# EAGLE library part 5P49V5923 (library 25cmsquare)
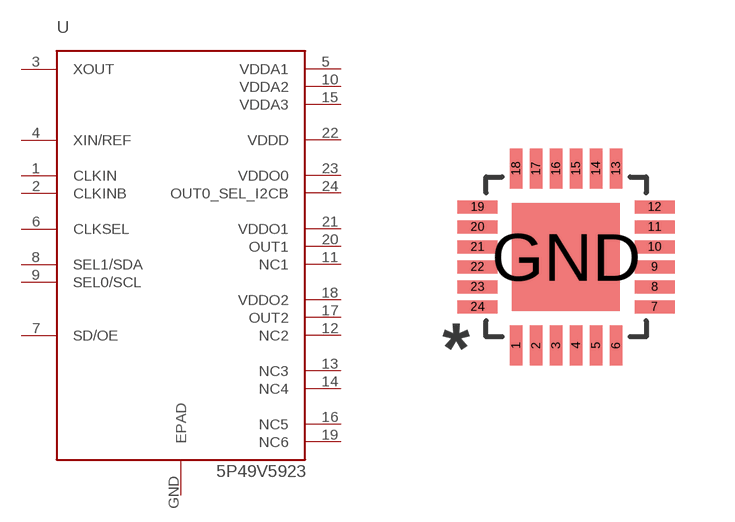
[diagram p11: symbol with the pads of VFQFPN_24_4X4; footprint VFQFPN_24_4X4]

Designator prefix U

## 5P49V5923  [VFQFPN_24_4X4]
1  CLKIN
2  CLKINB
3  XOUT
4  XIN/REF
5  VDDA1
6  CLKSEL
7  SD/OE
8  SEL1/SDA
9  SEL0/SCL
10  VDDA2
11  NC1
12  NC2
13  NC3
14  NC4
15  VDDA3
16  NC5
17  OUT2
18  VDDO2
19  NC6
20  OUT1
21  VDDO1
22  VDDD
23  VDDO0
24  OUT0_SEL_I2CB
GND  EPAD

## Footprint VFQFPN_24_4X4 (pad centres in mm)
smd 0.32 x 1: 1 -1.25,-2.215; 2 -0.75,-2.215; 3 -0.25,-2.215; 4 0.25,-2.215; 5 0.75,-2.215; 6 1.25,-2.215; 13 1.25,2.215; 14 0.75,2.215; 15 0.25,2.215; 16 -0.25,2.215; 17 -0.75,2.215; 18 -1.25,2.215
smd 1 x 0.32: 7 2.215,-1.25; 8 2.215,-0.75; 9 2.215,-0.25; 10 2.215,0.25; 11 2.215,0.75; 12 2.215,1.25; 19 -2.215,1.25; 20 -2.215,0.75; 21 -2.215,0.25; 22 -2.215,-0.25; 23 -2.215,-0.75; 24 -2.215,-1.25
smd 2.7 x 2.7: GND 0,0